# EAGLE library part PCA9531 (library Philips-6)
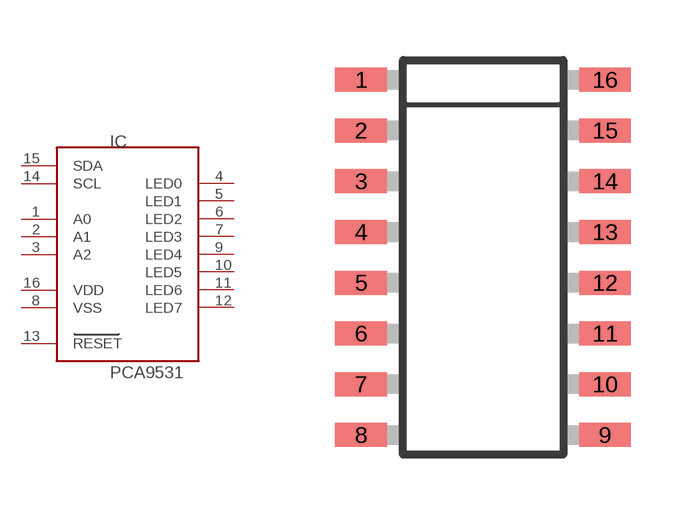
[diagram p0: symbol with the pads of SOIC16N; footprint SOIC16N]

Designator prefix IC

## PCA9531D  [SOIC16N]
1  A0
2  A1
3  A2
4  LED0
5  LED1
6  LED2
7  LED3
8  VSS
9  LED4
10  LED5
11  LED6
12  LED7
13  RESET
14  SCL
15  SDA
16  VDD

## Footprint SOIC16N (pad centres in mm)
smd 1.3 x 0.6: 1 -3.05,4.445; 2 -3.05,3.175; 3 -3.05,1.905; 4 -3.05,0.635; 5 -3.05,-0.635; 6 -3.05,-1.905; 7 -3.05,-3.175; 8 -3.05,-4.445; 9 3.05,-4.445; 10 3.05,-3.175; 11 3.05,-1.905; 12 3.05,-0.635; 13 3.05,0.635; 14 3.05,1.905; 15 3.05,3.175; 16 3.05,4.445